# EAGLE library part LT1019 (library parts2011)
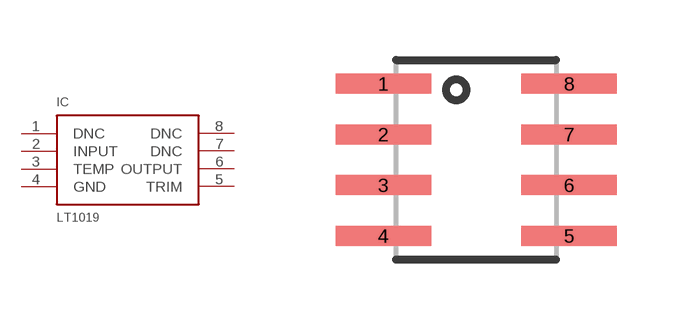
[diagram p8: symbol with the pads of SOIC-8; footprint SOIC-8]

Designator prefix IC

## LT1019-SOIC-8  [SOIC-8]
1  DNC
2  INPUT
3  TEMP
4  GND
5  TRIM
6  OUTPUT
7  DNC
8  DNC

## Footprint SOIC-8 (pad centres in mm)
smd 2.388 x 0.5: 1 -2.324,1.905; 2 -2.324,0.635; 3 -2.324,-0.635; 4 -2.324,-1.905; 5 2.324,-1.905; 6 2.324,-0.635; 7 2.324,0.635; 8 2.324,1.905